# Altium footprint library MICROSD卡座9脚.PcbLib: 1 footprints
Each footprint in its own frame and in the unit in brackets; x right, y up, seen from the top. Pads: shape width x height; smd on the part's side, far side on the other; paste and mask are expansions set on the pad; w line width, h text height; cw(c..) or ccw(c..) is an arc to the next point about the centre after c.
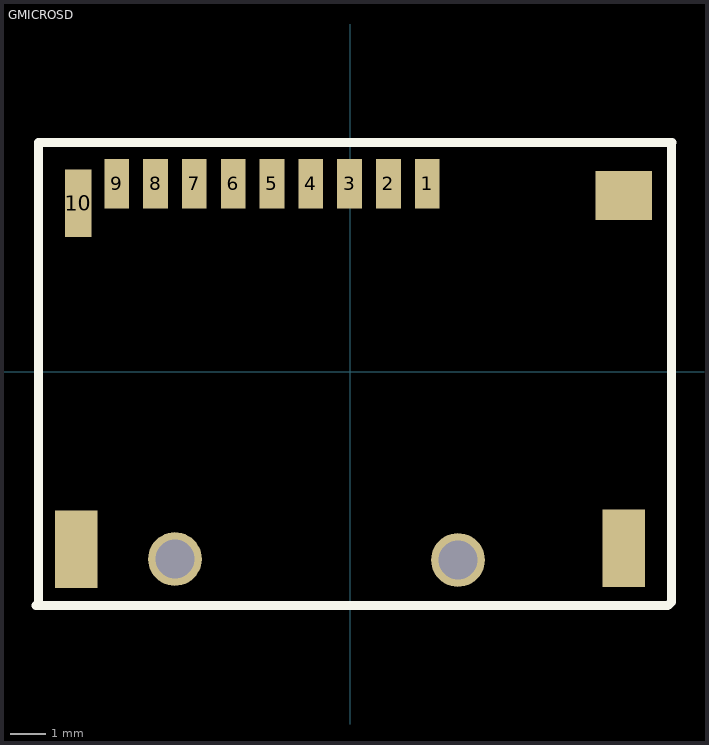
[diagram p0: the footprint, top view; thin cyan lines are the x and y axes]

## GMICROSD [mm]
pads (15):
  rect 0.7x1.4 smd: 1(2.185,5.329) 2(1.086,5.329) 3(-0.015,5.329) 4(-1.114,5.329) 5(-2.215,5.329) 6(-3.314,5.329) 7(-4.415,5.329) 8(-5.514,5.329) 9(-6.615,5.329)
  rect 0.762x1.908 smd: 10(-7.705,4.769)
  rect 1.2x2.2 smd: ""(-7.763,-5.032) ""(7.756,-5.007)
  round 1.524 hole 1.1: ""(-4.965,-5.312) ""(3.057,-5.337)
  rect 1.6x1.4 smd: ""(7.756,4.993)
Top Overlay:
  lines w0.254: -8.906,-6.632 -8.83,-6.556 -8.83,6.499 9.128,6.499 9.102,6.474 9.102,-6.531 9.001,-6.632 -8.906,-6.632